# Altium schematic symbol library kmilo17pet-PIC32MX.SchLib: 556 symbols (part 13 of 38)
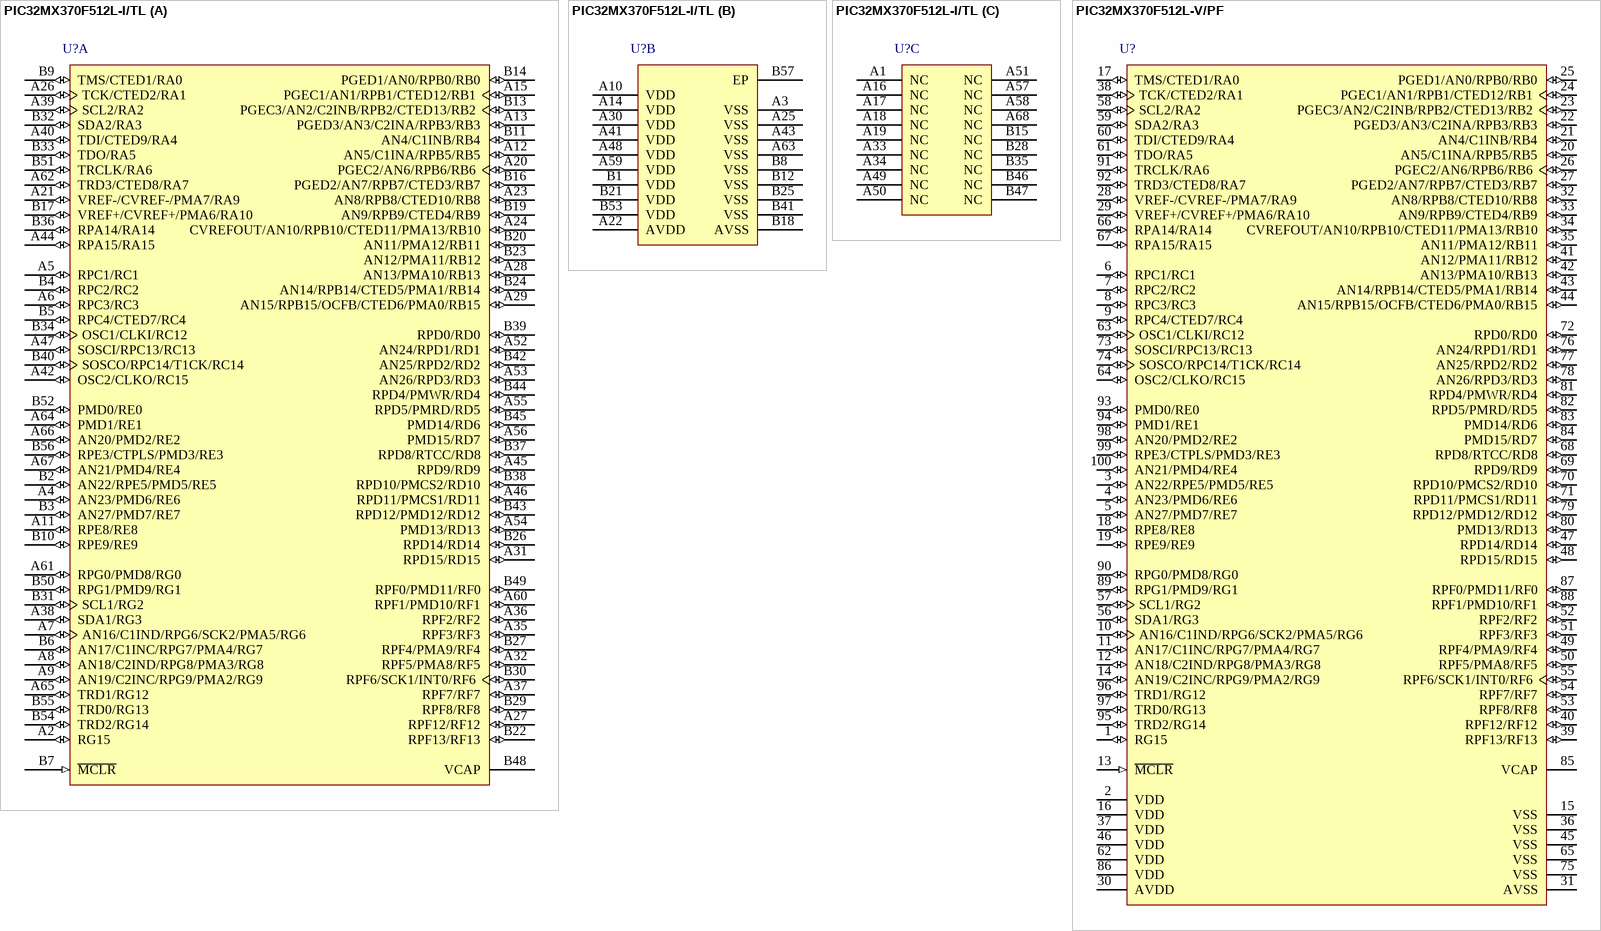
[diagram p204: symbols PIC32MX370F512L-I/TL to PIC32MX370F512L-V/PF]

## PIC32MX370F512L-I/TL
designator U?
32-Bit Microcontrollers with Audio/Graphics/Touch (HMI), USB, and Advanced Analog, 512 KB Program Memory, 128 KB Data Memory, 85 I/O, Industrial Temperature, 124-Pin VTAL (TL124), Tube; Manufacturer: Microchip; PartNumber: PIC32MX370F512L-I/TL; VCC Range: 2.3 to 3.6 V; DatasheetVersion: Rev. C; PackageVersion: C04-193A; PackageReference: VTLA-TL124; PackageDescription: 124-Lead Terminal Very Thin Leadless Array Package, 9 x 9 mm Body, 0.5 mm Pitch; Supplier 1: Digi-Key; Supplier Part Number 1: PIC32MX370F512L-I/TL-ND; Packing: Tube; Mounting Technology: Surface Mount; ComponentLink1Description: Manufacturer URL; ComponentLink1URL: http://www.microchip.com/; ComponentLink2Description: Datasheet; ComponentLink2URL: http://ww1.microchip.com/downloads/en/DeviceDoc/60001185C.pdf; ComponentLink3Description: Package Specification; ComponentLink3URL: http://ww1.microchip.com/downloads/en/DeviceDoc/60001185C.pdf
footprint MCHP-VTLA-TL124_V (VTLA, 124-Leads, Body 9x9mm, Pitch 0.5mm, Thermal Pad 6.7X6.7mm)
part A pins: A2 RG15 (io) "PORTG is a bidirectional I/O port", A4 AN23/PMD6/RE6 (io), A5 RPC1/RC1 (io), A6 RPC3/RC3 (io), A7 AN16/C1IND/RPG6/SCK2/PMA5/RG6 (io), A8 AN18/C2IND/RPG8/PMA3/RG8 (io), A9 AN19/C2INC/RPG9/PMA2/RG9 (io), A11 RPE8/RE8 (io), A12 AN5/C1INA/RPB5/RB5 (io), A13 PGED3/AN3/C2INA/RPB3/RB3 (io), A15 PGEC1/AN1/RPB1/CTED12/RB1 (io), A20 PGEC2/AN6/RPB6/RB6 (io), A21 VREF-/CVREF-/PMA7/RA9 (io), A23 AN8/RPB8/CTED10/RB8 (io), A24 CVREFOUT/AN10/RPB10/CTED11/PMA13/RB10 (io), A26 TCK/CTED2/RA1 (io), A27 RPF12/RF12 (io), A28 AN13/PMA10/RB13 (io), A29 AN15/RPB15/OCFB/CTED6/PMA0/RB15 (io), A31 RPD15/RD15 (io), A32 RPF5/PMA8/RF5 (io), A35 RPF3/RF3 (io), A36 RPF2/RF2 (io), A37 RPF7/RF7 (io), A38 SDA1/RG3 (io), A39 SCL2/RA2 (io), A40 TDI/CTED9/RA4 (io), A42 OSC2/CLKO/RC15 (io), A44 RPA15/RA15 (io), A45 RPD9/RD9 (io), A46 RPD11/PMCS1/RD11 (io), A47 SOSCI/RPC13/RC13 (io), A52 AN24/RPD1/RD1 (io), A53 AN26/RPD3/RD3 (io), A54 PMD13/RD13 (io), A55 RPD5/PMRD/RD5 (io), A56 PMD15/RD7 (io), A60 RPF1/PMD10/RF1 (io), A61 RPG0/PMD8/RG0 (io), A62 TRD3/CTED8/RA7 (io), A64 PMD1/RE1 (io), A65 TRD1/RG12 (io), A66 AN20/PMD2/RE2 (io), A67 AN21/PMD4/RE4 (io), B2 AN22/RPE5/PMD5/RE5 (io), B3 AN27/PMD7/RE7 (io), B4 RPC2/RC2 (io), B5 RPC4/CTED7/RC4 (io), B6 AN17/C1INC/RPG7/PMA4/RG7 (io), B7 ~{MCLR} (in) "Master Clear (Reset) input. This pin is an active-low Reset to the device.", B9 TMS/CTED1/RA0 (io), B10 RPE9/RE9 (io), B11 AN4/C1INB/RB4 (io), B13 PGEC3/AN2/C2INB/RPB2/CTED13/RB2 (io), B14 PGED1/AN0/RPB0/RB0 (io), B16 PGED2/AN7/RPB7/CTED3/RB7 (io), B17 VREF+/CVREF+/PMA6/RA10 (io), B19 AN9/RPB9/CTED4/RB9 (io), B20 AN11/PMA12/RB11 (io), B22 RPF13/RF13 (io), B23 AN12/PMA11/RB12 (io), B24 AN14/RPB14/CTED5/PMA1/RB14 (io), B26 RPD14/RD14 (io), B27 RPF4/PMA9/RF4 (io), B29 RPF8/RF8 (io), B30 RPF6/SCK1/INT0/RF6 (io), B31 SCL1/RG2 (io), B32 SDA2/RA3 (io), B33 TDO/RA5 (io), B34 OSC1/CLKI/RC12 (io), B36 RPA14/RA14 (io), B37 RPD8/RTCC/RD8 (io), B38 RPD10/PMCS2/RD10 (io), B39 RPD0/RD0 (io), B40 SOSCO/RPC14/T1CK/RC14 (io), B42 AN25/RPD2/RD2 (io), B43 RPD12/PMD12/RD12 (io), B44 RPD4/PMWR/RD4 (io), B45 PMD14/RD6 (io), B48 VCAP "Capacitor for Internal Voltage Regulator", B49 RPF0/PMD11/RF0 (io), B50 RPG1/PMD9/RG1 (io), B51 TRCLK/RA6 (io), B52 PMD0/RE0 (io), B54 TRD2/RG14 (io), B55 TRD0/RG13 (io), B56 RPE3/CTPLS/PMD3/RE3 (io)
part B pins: A3 VSS (power) "Ground reference for logic and I/O pins", A10 VDD (power) "Positive supply for peripheral logic and I/O pins", A14 VDD (power) "Positive supply for peripheral logic and I/O pins", A22 AVDD (power) "Positive supply for analog modules. This pin must be connected at all times.", A25 VSS (power) "Ground reference for logic and I/O pins", A30 VDD (power) "Positive supply for peripheral logic and I/O pins", A41 VDD (power) "Positive supply for peripheral logic and I/O pins", A43 VSS (power) "Ground reference for logic and I/O pins", A48 VDD (power) "Positive supply for peripheral logic and I/O pins", A59 VDD (power) "Positive supply for peripheral logic and I/O pins", A63 VSS (power) "Ground reference for logic and I/O pins", B1 VDD (power) "Positive supply for peripheral logic and I/O pins", B8 VSS (power) "Ground reference for logic and I/O pins", B12 VSS (power) "Ground reference for logic and I/O pins", B18 AVSS (power) "Ground reference for analog modules", B21 VDD (power) "Positive supply for peripheral logic and I/O pins", B25 VSS (power) "Ground reference for logic and I/O pins", B41 VSS (power) "Ground reference for logic and I/O pins", B53 VDD (power) "Positive supply for peripheral logic and I/O pins", B57 EP (power) "Conductive Thermal Pad"
part C pins: A1 NC, A16 NC, A17 NC, A18 NC, A19 NC, A33 NC, A34 NC, A49 NC, A50 NC, A51 NC, A57 NC, A58 NC, A68 NC, B15 NC, B28 NC, B35 NC, B46 NC, B47 NC

## PIC32MX370F512L-V/PF
designator U?
32-Bit Microcontrollers with Audio/Graphics/Touch (HMI), USB, and Advanced Analog, 512 KB Program Memory, 128 KB Data Memory, 85 I/O, V-Temp, 100-Pin TQFP (PF100), Tray; Manufacturer: Microchip; PartNumber: PIC32MX370F512L-V/PF; VCC Range: 2.3 to 3.6 V; DatasheetVersion: Rev. C; PackageVersion: C04-110B, 12/2012; PackageReference: TQFP-PF100; PackageDescription: 100-Lead Thin Plastic Quad Flat Pack, 14 x 14 mm Body, 0.5 mm Pitch; Supplier 1: Digi-Key; Supplier Part Number 1: PIC32MX370F512L-V/PF-ND; Packing: Tray; Mounting Technology: Surface Mount; ComponentLink1Description: Manufacturer URL; ComponentLink1URL: http://www.microchip.com/; ComponentLink2Description: Datasheet; ComponentLink2URL: http://ww1.microchip.com/downloads/en/DeviceDoc/60001185C.pdf; ComponentLink3Description: Package Specification; ComponentLink3URL: http://www.microchip.com/stellent/groups/techpub_sg/documents/packagingspec/en012702.pdf
footprint MCHP-TQFP-PF100_N (QFP, 100-Leads, Body 14x14mm, Pitch 0.5mm, IPC Medium Density)
footprint MCHP-TQFP-PF100_L (QFP, 100-Leads, Body 14x14mm, Pitch 0.5mm, IPC High Density)
footprint MCHP-TQFP-PF100_M (QFP, 100-Leads, Body 14x14mm, Pitch 0.5mm, IPC Low Density)
pins: 1 RG15 (io) "PORTG is a bidirectional I/O port", 2 VDD (power) "Positive supply for peripheral logic and I/O pins", 3 AN22/RPE5/PMD5/RE5 (io), 4 AN23/PMD6/RE6 (io), 5 AN27/PMD7/RE7 (io), 6 RPC1/RC1 (io), 7 RPC2/RC2 (io), 8 RPC3/RC3 (io), 9 RPC4/CTED7/RC4 (io), 10 AN16/C1IND/RPG6/SCK2/PMA5/RG6 (io), 11 AN17/C1INC/RPG7/PMA4/RG7 (io), 12 AN18/C2IND/RPG8/PMA3/RG8 (io), 13 ~{MCLR} (in) "Master Clear (Reset) input. This pin is an active-low  Reset to the device.", 14 AN19/C2INC/RPG9/PMA2/RG9 (io), 15 VSS (power) "Ground reference for logic and I/O pins", 16 VDD (power) "Positive supply for peripheral logic and I/O pins", 17 TMS/CTED1/RA0 (io), 18 RPE8/RE8 (io), 19 RPE9/RE9 (io), 20 AN5/C1INA/RPB5/RB5 (io), 21 AN4/C1INB/RB4 (io), 22 PGED3/AN3/C2INA/RPB3/RB3 (io), 23 PGEC3/AN2/C2INB/RPB2/CTED13/RB2 (io), 24 PGEC1/AN1/RPB1/CTED12/RB1 (io), 25 PGED1/AN0/RPB0/RB0 (io), 26 PGEC2/AN6/RPB6/RB6 (io), 27 PGED2/AN7/RPB7/CTED3/RB7 (io), 28 VREF-/CVREF-/PMA7/RA9 (io), 29 VREF+/CVREF+/PMA6/RA10 (io), 30 AVDD (power) "Positive supply for analog modules. This pin must be  connected at all times.", 31 AVSS (power) "Ground reference for analog modules", 32 AN8/RPB8/CTED10/RB8 (io), 33 AN9/RPB9/CTED4/RB9 (io), 34 CVREFOUT/AN10/RPB10/CTED11/PMA13/RB10 (io), 35 AN11/PMA12/RB11 (io), 36 VSS (power) "Ground reference for logic and I/O pins", 37 VDD (power) "Positive supply for peripheral logic and I/O pins", 38 TCK/CTED2/RA1 (io), 39 RPF13/RF13 (io), 40 RPF12/RF12 (io), 41 AN12/PMA11/RB12 (io), 42 AN13/PMA10/RB13 (io), 43 AN14/RPB14/CTED5/PMA1/RB14 (io), 44 AN15/RPB15/OCFB/CTED6/PMA0/RB15 (io), 45 VSS (power) "Ground reference for logic and I/O pins", 46 VDD (power) "Positive supply for peripheral logic and I/O pins", 47 RPD14/RD14 (io), 48 RPD15/RD15 (io), 49 RPF4/PMA9/RF4 (io), 50 RPF5/PMA8/RF5 (io), 51 RPF3/RF3 (io), 52 RPF2/RF2 (io), 53 RPF8/RF8 (io), 54 RPF7/RF7 (io), 55 RPF6/SCK1/INT0/RF6 (io), 56 SDA1/RG3 (io), 57 SCL1/RG2 (io), 58 SCL2/RA2 (io), 59 SDA2/RA3 (io), 60 TDI/CTED9/RA4 (io), 61 TDO/RA5 (io), 62 VDD (power) "Positive supply for peripheral logic and I/O pins", 63 OSC1/CLKI/RC12 (io), 64 OSC2/CLKO/RC15 (io), 65 VSS (power) "Ground reference for logic and I/O pins", 66 RPA14/RA14 (io), 67 RPA15/RA15 (io), 68 RPD8/RTCC/RD8 (io), 69 RPD9/RD9 (io), 70 RPD10/PMCS2/RD10 (io), 71 RPD11/PMCS1/RD11 (io), 72 RPD0/RD0 (io), 73 SOSCI/RPC13/RC13 (io), 74 SOSCO/RPC14/T1CK/RC14 (io), 75 VSS (power) "Ground reference for logic and I/O pins", 76 AN24/RPD1/RD1 (io), 77 AN25/RPD2/RD2 (io), 78 AN26/RPD3/RD3 (io), 79 RPD12/PMD12/RD12 (io), 80 PMD13/RD13 (io), 81 RPD4/PMWR/RD4 (io), 82 RPD5/PMRD/RD5 (io), 83 PMD14/RD6 (io), 84 PMD15/RD7 (io), 85 VCAP "Capacitor for Internal Voltage Regulator", 86 VDD (power) "Positive supply for peripheral logic and I/O pins", 87 RPF0/PMD11/RF0 (io), 88 RPF1/PMD10/RF1 (io), 89 RPG1/PMD9/RG1 (io), 90 RPG0/PMD8/RG0 (io), 91 TRCLK/RA6 (io), 92 TRD3/CTED8/RA7 (io), 93 PMD0/RE0 (io), 94 PMD1/RE1 (io), 95 TRD2/RG14 (io), 96 TRD1/RG12 (io), 97 TRD0/RG13 (io), 98 AN20/PMD2/RE2 (io), 99 RPE3/CTPLS/PMD3/RE3 (io), 100 AN21/PMD4/RE4 (io)

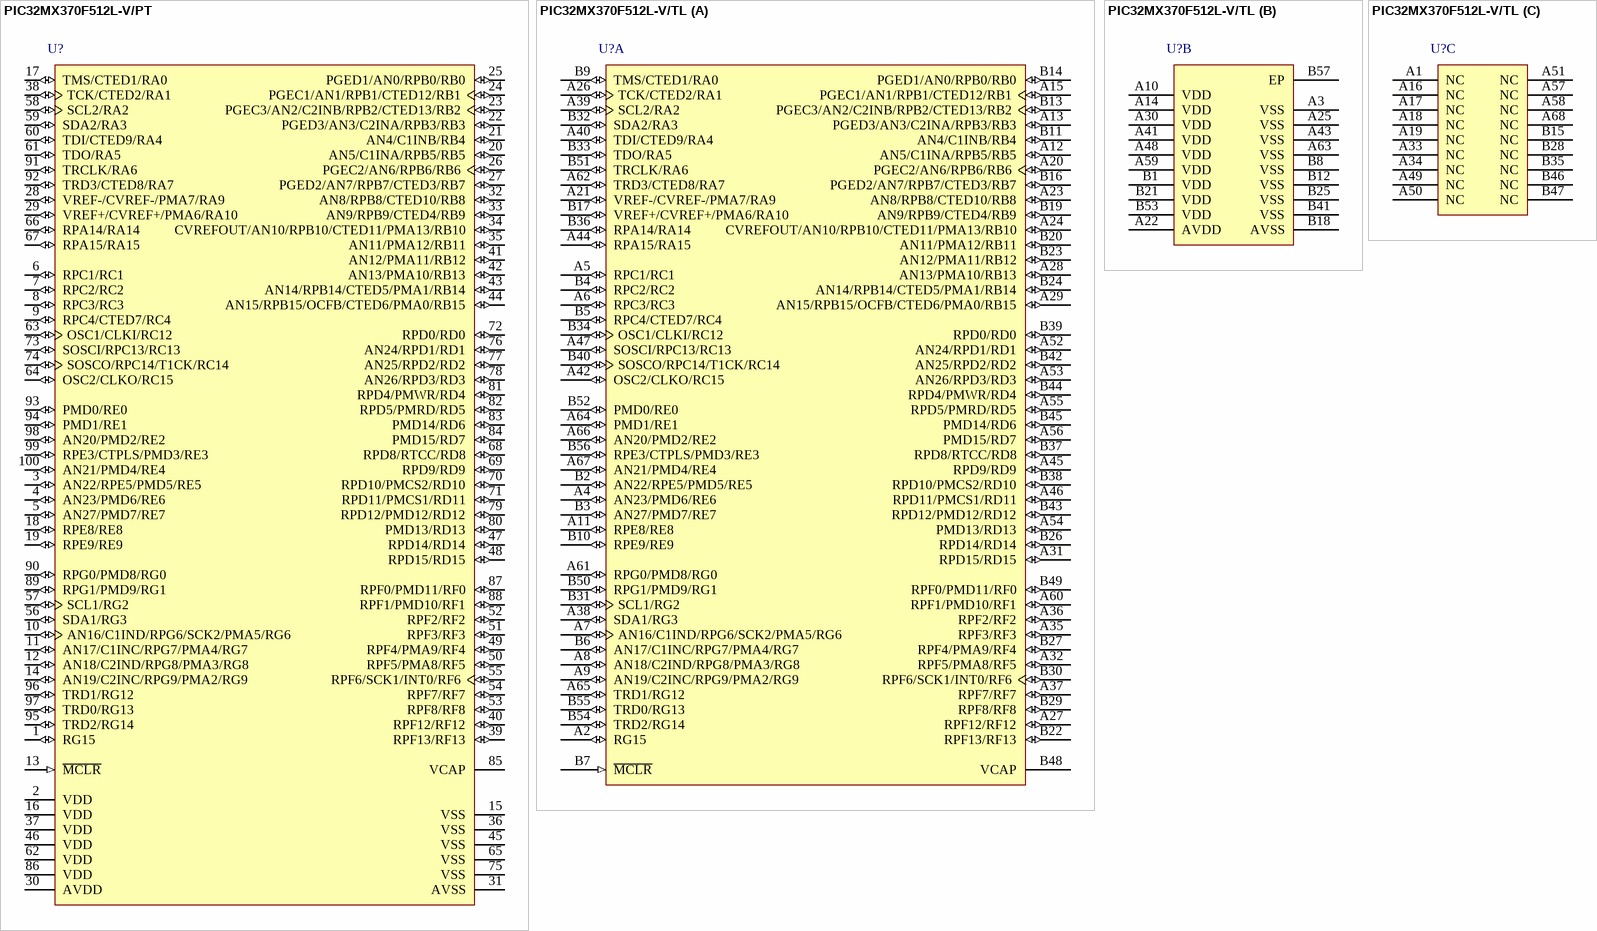
[diagram p54: symbols PIC32MX370F512L-V/PT to PIC32MX370F512L-V/TL]

## PIC32MX370F512L-V/PT
designator U?
32-Bit Microcontrollers with Audio/Graphics/Touch (HMI), USB, and Advanced Analog, 512 KB Program Memory, 128 KB Data Memory, 85 I/O, V-Temp, 100-Pin TQFP (PT100), Tray; Manufacturer: Microchip; PartNumber: PIC32MX370F512L-V/PT; VCC Range: 2.3 to 3.6 V; DatasheetVersion: Rev. C; PackageVersion: C04-100B, 12/2012; PackageReference: TQFP-PT100; PackageDescription: 100-Lead Plastic Thin Quad Flatpack, 12 x 12 mm Body, 0.4 mm Pitch; Supplier 1: Digi-Key; Supplier Part Number 1: PIC32MX370F512L-V/PT-ND; Packing: Tray; Mounting Technology: Surface Mount; ComponentLink1Description: Manufacturer URL; ComponentLink1URL: http://www.microchip.com/; ComponentLink2Description: Datasheet; ComponentLink2URL: http://ww1.microchip.com/downloads/en/DeviceDoc/60001185C.pdf; ComponentLink3Description: Package Specification; ComponentLink3URL: http://www.microchip.com/stellent/groups/techpub_sg/documents/packagingspec/en012702.pdf
footprint MCHP-TQFP-PT100_N (QFP, 100-Leads, Body 12x12mm, Pitch 0.4mm, IPC Medium Density)
footprint MCHP-TQFP-PT100_L (QFP, 100-Leads, Body 12x12mm, Pitch 0.4mm, IPC High Density)
footprint MCHP-TQFP-PT100_M (TQFP, 100-Leads, Body 12x12mm, Pitch 0.4mm, IPC Low Density)
pins: 1 RG15 (io) "PORTG is a bidirectional I/O port", 2 VDD (power) "Positive supply for peripheral logic and I/O pins", 3 AN22/RPE5/PMD5/RE5 (io), 4 AN23/PMD6/RE6 (io), 5 AN27/PMD7/RE7 (io), 6 RPC1/RC1 (io), 7 RPC2/RC2 (io), 8 RPC3/RC3 (io), 9 RPC4/CTED7/RC4 (io), 10 AN16/C1IND/RPG6/SCK2/PMA5/RG6 (io), 11 AN17/C1INC/RPG7/PMA4/RG7 (io), 12 AN18/C2IND/RPG8/PMA3/RG8 (io), 13 ~{MCLR} (in) "Master Clear (Reset) input. This pin is an active-low  Reset to the device.", 14 AN19/C2INC/RPG9/PMA2/RG9 (io), 15 VSS (power) "Ground reference for logic and I/O pins", 16 VDD (power) "Positive supply for peripheral logic and I/O pins", 17 TMS/CTED1/RA0 (io), 18 RPE8/RE8 (io), 19 RPE9/RE9 (io), 20 AN5/C1INA/RPB5/RB5 (io), 21 AN4/C1INB/RB4 (io), 22 PGED3/AN3/C2INA/RPB3/RB3 (io), 23 PGEC3/AN2/C2INB/RPB2/CTED13/RB2 (io), 24 PGEC1/AN1/RPB1/CTED12/RB1 (io), 25 PGED1/AN0/RPB0/RB0 (io), 26 PGEC2/AN6/RPB6/RB6 (io), 27 PGED2/AN7/RPB7/CTED3/RB7 (io), 28 VREF-/CVREF-/PMA7/RA9 (io), 29 VREF+/CVREF+/PMA6/RA10 (io), 30 AVDD (power) "Positive supply for analog modules. This pin must be  connected at all times.", 31 AVSS (power) "Ground reference for analog modules", 32 AN8/RPB8/CTED10/RB8 (io), 33 AN9/RPB9/CTED4/RB9 (io), 34 CVREFOUT/AN10/RPB10/CTED11/PMA13/RB10 (io), 35 AN11/PMA12/RB11 (io), 36 VSS (power) "Ground reference for logic and I/O pins", 37 VDD (power) "Positive supply for peripheral logic and I/O pins", 38 TCK/CTED2/RA1 (io), 39 RPF13/RF13 (io), 40 RPF12/RF12 (io), 41 AN12/PMA11/RB12 (io), 42 AN13/PMA10/RB13 (io), 43 AN14/RPB14/CTED5/PMA1/RB14 (io), 44 AN15/RPB15/OCFB/CTED6/PMA0/RB15 (io), 45 VSS (power) "Ground reference for logic and I/O pins", 46 VDD (power) "Positive supply for peripheral logic and I/O pins", 47 RPD14/RD14 (io), 48 RPD15/RD15 (io), 49 RPF4/PMA9/RF4 (io), 50 RPF5/PMA8/RF5 (io), 51 RPF3/RF3 (io), 52 RPF2/RF2 (io), 53 RPF8/RF8 (io), 54 RPF7/RF7 (io), 55 RPF6/SCK1/INT0/RF6 (io), 56 SDA1/RG3 (io), 57 SCL1/RG2 (io), 58 SCL2/RA2 (io), 59 SDA2/RA3 (io), 60 TDI/CTED9/RA4 (io), 61 TDO/RA5 (io), 62 VDD (power) "Positive supply for peripheral logic and I/O pins", 63 OSC1/CLKI/RC12 (io), 64 OSC2/CLKO/RC15 (io), 65 VSS (power) "Ground reference for logic and I/O pins", 66 RPA14/RA14 (io), 67 RPA15/RA15 (io), 68 RPD8/RTCC/RD8 (io), 69 RPD9/RD9 (io), 70 RPD10/PMCS2/RD10 (io), 71 RPD11/PMCS1/RD11 (io), 72 RPD0/RD0 (io), 73 SOSCI/RPC13/RC13 (io), 74 SOSCO/RPC14/T1CK/RC14 (io), 75 VSS (power) "Ground reference for logic and I/O pins", 76 AN24/RPD1/RD1 (io), 77 AN25/RPD2/RD2 (io), 78 AN26/RPD3/RD3 (io), 79 RPD12/PMD12/RD12 (io), 80 PMD13/RD13 (io), 81 RPD4/PMWR/RD4 (io), 82 RPD5/PMRD/RD5 (io), 83 PMD14/RD6 (io), 84 PMD15/RD7 (io), 85 VCAP "Capacitor for Internal Voltage Regulator", 86 VDD (power) "Positive supply for peripheral logic and I/O pins", 87 RPF0/PMD11/RF0 (io), 88 RPF1/PMD10/RF1 (io), 89 RPG1/PMD9/RG1 (io), 90 RPG0/PMD8/RG0 (io), 91 TRCLK/RA6 (io), 92 TRD3/CTED8/RA7 (io), 93 PMD0/RE0 (io), 94 PMD1/RE1 (io), 95 TRD2/RG14 (io), 96 TRD1/RG12 (io), 97 TRD0/RG13 (io), 98 AN20/PMD2/RE2 (io), 99 RPE3/CTPLS/PMD3/RE3 (io), 100 AN21/PMD4/RE4 (io)

## PIC32MX370F512L-V/TL
designator U?
32-Bit Microcontrollers with Audio/Graphics/Touch (HMI), USB, and Advanced Analog, 512 KB Program Memory, 128 KB Data Memory, 85 I/O, V-Temp, 124-Pin VTAL (TL124), Tube; Manufacturer: Microchip; PartNumber: PIC32MX370F512L-V/TL; VCC Range: 2.3 to 3.6 V; DatasheetVersion: Rev. C; PackageVersion: C04-193A; PackageReference: VTLA-TL124; PackageDescription: 124-Lead Terminal Very Thin Leadless Array Package, 9 x 9 mm Body, 0.5 mm Pitch; Supplier 1: Digi-Key; Supplier Part Number 1: PIC32MX370F512L-V/TL-ND; Packing: Tube; Mounting Technology: Surface Mount; ComponentLink1Description: Manufacturer URL; ComponentLink1URL: http://www.microchip.com/; ComponentLink2Description: Datasheet; ComponentLink2URL: http://ww1.microchip.com/downloads/en/DeviceDoc/60001185C.pdf; ComponentLink3Description: Package Specification; ComponentLink3URL: http://ww1.microchip.com/downloads/en/DeviceDoc/60001185C.pdf
footprint MCHP-VTLA-TL124_V (VTLA, 124-Leads, Body 9x9mm, Pitch 0.5mm, Thermal Pad 6.7X6.7mm)
part A pins: A2 RG15 (io) "PORTG is a bidirectional I/O port", A4 AN23/PMD6/RE6 (io), A5 RPC1/RC1 (io), A6 RPC3/RC3 (io), A7 AN16/C1IND/RPG6/SCK2/PMA5/RG6 (io), A8 AN18/C2IND/RPG8/PMA3/RG8 (io), A9 AN19/C2INC/RPG9/PMA2/RG9 (io), A11 RPE8/RE8 (io), A12 AN5/C1INA/RPB5/RB5 (io), A13 PGED3/AN3/C2INA/RPB3/RB3 (io), A15 PGEC1/AN1/RPB1/CTED12/RB1 (io), A20 PGEC2/AN6/RPB6/RB6 (io), A21 VREF-/CVREF-/PMA7/RA9 (io), A23 AN8/RPB8/CTED10/RB8 (io), A24 CVREFOUT/AN10/RPB10/CTED11/PMA13/RB10 (io), A26 TCK/CTED2/RA1 (io), A27 RPF12/RF12 (io), A28 AN13/PMA10/RB13 (io), A29 AN15/RPB15/OCFB/CTED6/PMA0/RB15 (io), A31 RPD15/RD15 (io), A32 RPF5/PMA8/RF5 (io), A35 RPF3/RF3 (io), A36 RPF2/RF2 (io), A37 RPF7/RF7 (io), A38 SDA1/RG3 (io), A39 SCL2/RA2 (io), A40 TDI/CTED9/RA4 (io), A42 OSC2/CLKO/RC15 (io), A44 RPA15/RA15 (io), A45 RPD9/RD9 (io), A46 RPD11/PMCS1/RD11 (io), A47 SOSCI/RPC13/RC13 (io), A52 AN24/RPD1/RD1 (io), A53 AN26/RPD3/RD3 (io), A54 PMD13/RD13 (io), A55 RPD5/PMRD/RD5 (io), A56 PMD15/RD7 (io), A60 RPF1/PMD10/RF1 (io), A61 RPG0/PMD8/RG0 (io), A62 TRD3/CTED8/RA7 (io), A64 PMD1/RE1 (io), A65 TRD1/RG12 (io), A66 AN20/PMD2/RE2 (io), A67 AN21/PMD4/RE4 (io), B2 AN22/RPE5/PMD5/RE5 (io), B3 AN27/PMD7/RE7 (io), B4 RPC2/RC2 (io), B5 RPC4/CTED7/RC4 (io), B6 AN17/C1INC/RPG7/PMA4/RG7 (io), B7 ~{MCLR} (in) "Master Clear (Reset) input. This pin is an active-low Reset to the device.", B9 TMS/CTED1/RA0 (io), B10 RPE9/RE9 (io), B11 AN4/C1INB/RB4 (io), B13 PGEC3/AN2/C2INB/RPB2/CTED13/RB2 (io), B14 PGED1/AN0/RPB0/RB0 (io), B16 PGED2/AN7/RPB7/CTED3/RB7 (io), B17 VREF+/CVREF+/PMA6/RA10 (io), B19 AN9/RPB9/CTED4/RB9 (io), B20 AN11/PMA12/RB11 (io), B22 RPF13/RF13 (io), B23 AN12/PMA11/RB12 (io), B24 AN14/RPB14/CTED5/PMA1/RB14 (io), B26 RPD14/RD14 (io), B27 RPF4/PMA9/RF4 (io), B29 RPF8/RF8 (io), B30 RPF6/SCK1/INT0/RF6 (io), B31 SCL1/RG2 (io), B32 SDA2/RA3 (io), B33 TDO/RA5 (io), B34 OSC1/CLKI/RC12 (io), B36 RPA14/RA14 (io), B37 RPD8/RTCC/RD8 (io), B38 RPD10/PMCS2/RD10 (io), B39 RPD0/RD0 (io), B40 SOSCO/RPC14/T1CK/RC14 (io), B42 AN25/RPD2/RD2 (io), B43 RPD12/PMD12/RD12 (io), B44 RPD4/PMWR/RD4 (io), B45 PMD14/RD6 (io), B48 VCAP "Capacitor for Internal Voltage Regulator", B49 RPF0/PMD11/RF0 (io), B50 RPG1/PMD9/RG1 (io), B51 TRCLK/RA6 (io), B52 PMD0/RE0 (io), B54 TRD2/RG14 (io), B55 TRD0/RG13 (io), B56 RPE3/CTPLS/PMD3/RE3 (io)
part B pins: A3 VSS (power) "Ground reference for logic and I/O pins", A10 VDD (power) "Positive supply for peripheral logic and I/O pins", A14 VDD (power) "Positive supply for peripheral logic and I/O pins", A22 AVDD (power) "Positive supply for analog modules. This pin must be connected at all times.", A25 VSS (power) "Ground reference for logic and I/O pins", A30 VDD (power) "Positive supply for peripheral logic and I/O pins", A41 VDD (power) "Positive supply for peripheral logic and I/O pins", A43 VSS (power) "Ground reference for logic and I/O pins", A48 VDD (power) "Positive supply for peripheral logic and I/O pins", A59 VDD (power) "Positive supply for peripheral logic and I/O pins", A63 VSS (power) "Ground reference for logic and I/O pins", B1 VDD (power) "Positive supply for peripheral logic and I/O pins", B8 VSS (power) "Ground reference for logic and I/O pins", B12 VSS (power) "Ground reference for logic and I/O pins", B18 AVSS (power) "Ground reference for analog modules", B21 VDD (power) "Positive supply for peripheral logic and I/O pins", B25 VSS (power) "Ground reference for logic and I/O pins", B41 VSS (power) "Ground reference for logic and I/O pins", B53 VDD (power) "Positive supply for peripheral logic and I/O pins", B57 EP (power) "Conductive Thermal Pad"
part C pins: A1 NC, A16 NC, A17 NC, A18 NC, A19 NC, A33 NC, A34 NC, A49 NC, A50 NC, A51 NC, A57 NC, A58 NC, A68 NC, B15 NC, B28 NC, B35 NC, B46 NC, B47 NC

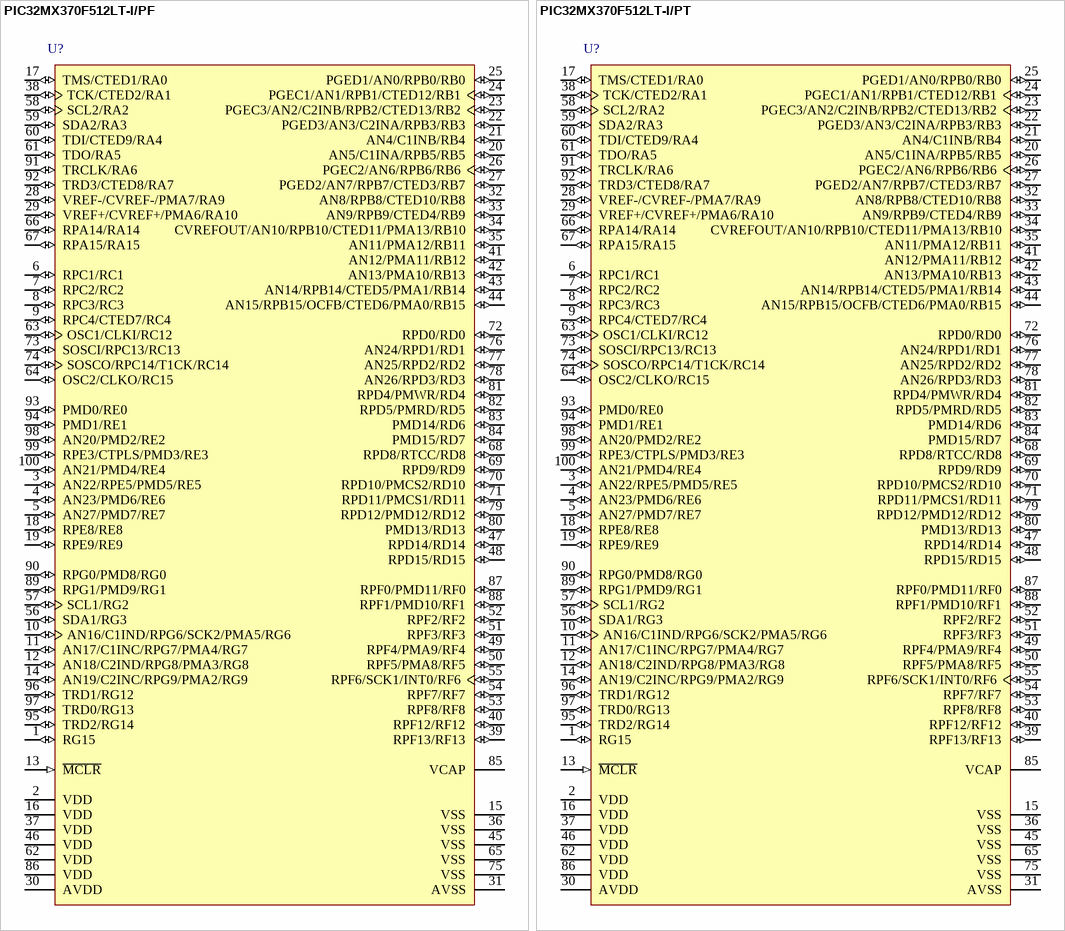
[diagram p55: symbols PIC32MX370F512LT-I/PF to PIC32MX370F512LT-I/PT]

## PIC32MX370F512LT-I/PF
designator U?
32-Bit Microcontrollers with Audio/Graphics/Touch (HMI), USB, and Advanced Analog, 512 KB Program Memory, 128 KB Data Memory, 85 I/O, Industrial Temperature, 100-Pin TQFP (PF100), Tape and Reel; Manufacturer: Microchip; PartNumber: PIC32MX370F512LT-I/PF; VCC Range: 2.3 to 3.6 V; DatasheetVersion: Rev. C; PackageVersion: C04-110B, 12/2012; PackageReference: TQFP-PF100; PackageDescription: 100-Lead Thin Plastic Quad Flat Pack, 14 x 14 mm Body, 0.5 mm Pitch; Supplier 1: Digi-Key; Supplier Part Number 1: PIC32MX370F512LT-I/PF-ND; Packing: Tape and Reel; Mounting Technology: Surface Mount; ComponentLink1Description: Manufacturer URL; ComponentLink1URL: http://www.microchip.com/; ComponentLink2Description: Datasheet; ComponentLink2URL: http://ww1.microchip.com/downloads/en/DeviceDoc/60001185C.pdf; ComponentLink3Description: Package Specification; ComponentLink3URL: http://www.microchip.com/stellent/groups/techpub_sg/documents/packagingspec/en012702.pdf
footprint MCHP-TQFP-PF100_N (QFP, 100-Leads, Body 14x14mm, Pitch 0.5mm, IPC Medium Density)
footprint MCHP-TQFP-PF100_L (QFP, 100-Leads, Body 14x14mm, Pitch 0.5mm, IPC High Density)
footprint MCHP-TQFP-PF100_M (QFP, 100-Leads, Body 14x14mm, Pitch 0.5mm, IPC Low Density)
pins: 1 RG15 (io) "PORTG is a bidirectional I/O port", 2 VDD (power) "Positive supply for peripheral logic and I/O pins", 3 AN22/RPE5/PMD5/RE5 (io), 4 AN23/PMD6/RE6 (io), 5 AN27/PMD7/RE7 (io), 6 RPC1/RC1 (io), 7 RPC2/RC2 (io), 8 RPC3/RC3 (io), 9 RPC4/CTED7/RC4 (io), 10 AN16/C1IND/RPG6/SCK2/PMA5/RG6 (io), 11 AN17/C1INC/RPG7/PMA4/RG7 (io), 12 AN18/C2IND/RPG8/PMA3/RG8 (io), 13 ~{MCLR} (in) "Master Clear (Reset) input. This pin is an active-low  Reset to the device.", 14 AN19/C2INC/RPG9/PMA2/RG9 (io), 15 VSS (power) "Ground reference for logic and I/O pins", 16 VDD (power) "Positive supply for peripheral logic and I/O pins", 17 TMS/CTED1/RA0 (io), 18 RPE8/RE8 (io), 19 RPE9/RE9 (io), 20 AN5/C1INA/RPB5/RB5 (io), 21 AN4/C1INB/RB4 (io), 22 PGED3/AN3/C2INA/RPB3/RB3 (io), 23 PGEC3/AN2/C2INB/RPB2/CTED13/RB2 (io), 24 PGEC1/AN1/RPB1/CTED12/RB1 (io), 25 PGED1/AN0/RPB0/RB0 (io), 26 PGEC2/AN6/RPB6/RB6 (io), 27 PGED2/AN7/RPB7/CTED3/RB7 (io), 28 VREF-/CVREF-/PMA7/RA9 (io), 29 VREF+/CVREF+/PMA6/RA10 (io), 30 AVDD (power) "Positive supply for analog modules. This pin must be  connected at all times.", 31 AVSS (power) "Ground reference for analog modules", 32 AN8/RPB8/CTED10/RB8 (io), 33 AN9/RPB9/CTED4/RB9 (io), 34 CVREFOUT/AN10/RPB10/CTED11/PMA13/RB10 (io), 35 AN11/PMA12/RB11 (io), 36 VSS (power) "Ground reference for logic and I/O pins", 37 VDD (power) "Positive supply for peripheral logic and I/O pins", 38 TCK/CTED2/RA1 (io), 39 RPF13/RF13 (io), 40 RPF12/RF12 (io), 41 AN12/PMA11/RB12 (io), 42 AN13/PMA10/RB13 (io), 43 AN14/RPB14/CTED5/PMA1/RB14 (io), 44 AN15/RPB15/OCFB/CTED6/PMA0/RB15 (io), 45 VSS (power) "Ground reference for logic and I/O pins", 46 VDD (power) "Positive supply for peripheral logic and I/O pins", 47 RPD14/RD14 (io), 48 RPD15/RD15 (io), 49 RPF4/PMA9/RF4 (io), 50 RPF5/PMA8/RF5 (io), 51 RPF3/RF3 (io), 52 RPF2/RF2 (io), 53 RPF8/RF8 (io), 54 RPF7/RF7 (io), 55 RPF6/SCK1/INT0/RF6 (io), 56 SDA1/RG3 (io), 57 SCL1/RG2 (io), 58 SCL2/RA2 (io), 59 SDA2/RA3 (io), 60 TDI/CTED9/RA4 (io), 61 TDO/RA5 (io), 62 VDD (power) "Positive supply for peripheral logic and I/O pins", 63 OSC1/CLKI/RC12 (io), 64 OSC2/CLKO/RC15 (io), 65 VSS (power) "Ground reference for logic and I/O pins", 66 RPA14/RA14 (io), 67 RPA15/RA15 (io), 68 RPD8/RTCC/RD8 (io), 69 RPD9/RD9 (io), 70 RPD10/PMCS2/RD10 (io), 71 RPD11/PMCS1/RD11 (io), 72 RPD0/RD0 (io), 73 SOSCI/RPC13/RC13 (io), 74 SOSCO/RPC14/T1CK/RC14 (io), 75 VSS (power) "Ground reference for logic and I/O pins", 76 AN24/RPD1/RD1 (io), 77 AN25/RPD2/RD2 (io), 78 AN26/RPD3/RD3 (io), 79 RPD12/PMD12/RD12 (io), 80 PMD13/RD13 (io), 81 RPD4/PMWR/RD4 (io), 82 RPD5/PMRD/RD5 (io), 83 PMD14/RD6 (io), 84 PMD15/RD7 (io), 85 VCAP "Capacitor for Internal Voltage Regulator", 86 VDD (power) "Positive supply for peripheral logic and I/O pins", 87 RPF0/PMD11/RF0 (io), 88 RPF1/PMD10/RF1 (io), 89 RPG1/PMD9/RG1 (io), 90 RPG0/PMD8/RG0 (io), 91 TRCLK/RA6 (io), 92 TRD3/CTED8/RA7 (io), 93 PMD0/RE0 (io), 94 PMD1/RE1 (io), 95 TRD2/RG14 (io), 96 TRD1/RG12 (io), 97 TRD0/RG13 (io), 98 AN20/PMD2/RE2 (io), 99 RPE3/CTPLS/PMD3/RE3 (io), 100 AN21/PMD4/RE4 (io)

## PIC32MX370F512LT-I/PT
designator U?
32-Bit Microcontrollers with Audio/Graphics/Touch (HMI), USB, and Advanced Analog, 512 KB Program Memory, 128 KB Data Memory, 85 I/O, Industrial Temperature, 100-Pin TQFP (PT100), Tape and Reel; Manufacturer: Microchip; PartNumber: PIC32MX370F512LT-I/PT; VCC Range: 2.3 to 3.6 V; DatasheetVersion: Rev. C; PackageVersion: C04-100B, 12/2012; PackageReference: TQFP-PT100; PackageDescription: 100-Lead Plastic Thin Quad Flatpack, 12 x 12 mm Body, 0.4 mm Pitch; Supplier 1: Digi-Key; Supplier Part Number 1: PIC32MX370F512LT-I/PT-ND; Packing: Tape and Reel; Mounting Technology: Surface Mount; ComponentLink1Description: Manufacturer URL; ComponentLink1URL: http://www.microchip.com/; ComponentLink2Description: Datasheet; ComponentLink2URL: http://ww1.microchip.com/downloads/en/DeviceDoc/60001185C.pdf; ComponentLink3Description: Package Specification; ComponentLink3URL: http://www.microchip.com/stellent/groups/techpub_sg/documents/packagingspec/en012702.pdf
footprint MCHP-TQFP-PT100_N (QFP, 100-Leads, Body 12x12mm, Pitch 0.4mm, IPC Medium Density)
footprint MCHP-TQFP-PT100_L (QFP, 100-Leads, Body 12x12mm, Pitch 0.4mm, IPC High Density)
footprint MCHP-TQFP-PT100_M (TQFP, 100-Leads, Body 12x12mm, Pitch 0.4mm, IPC Low Density)
pins: 1 RG15 (io) "PORTG is a bidirectional I/O port", 2 VDD (power) "Positive supply for peripheral logic and I/O pins", 3 AN22/RPE5/PMD5/RE5 (io), 4 AN23/PMD6/RE6 (io), 5 AN27/PMD7/RE7 (io), 6 RPC1/RC1 (io), 7 RPC2/RC2 (io), 8 RPC3/RC3 (io), 9 RPC4/CTED7/RC4 (io), 10 AN16/C1IND/RPG6/SCK2/PMA5/RG6 (io), 11 AN17/C1INC/RPG7/PMA4/RG7 (io), 12 AN18/C2IND/RPG8/PMA3/RG8 (io), 13 ~{MCLR} (in) "Master Clear (Reset) input. This pin is an active-low  Reset to the device.", 14 AN19/C2INC/RPG9/PMA2/RG9 (io), 15 VSS (power) "Ground reference for logic and I/O pins", 16 VDD (power) "Positive supply for peripheral logic and I/O pins", 17 TMS/CTED1/RA0 (io), 18 RPE8/RE8 (io), 19 RPE9/RE9 (io), 20 AN5/C1INA/RPB5/RB5 (io), 21 AN4/C1INB/RB4 (io), 22 PGED3/AN3/C2INA/RPB3/RB3 (io), 23 PGEC3/AN2/C2INB/RPB2/CTED13/RB2 (io), 24 PGEC1/AN1/RPB1/CTED12/RB1 (io), 25 PGED1/AN0/RPB0/RB0 (io), 26 PGEC2/AN6/RPB6/RB6 (io), 27 PGED2/AN7/RPB7/CTED3/RB7 (io), 28 VREF-/CVREF-/PMA7/RA9 (io), 29 VREF+/CVREF+/PMA6/RA10 (io), 30 AVDD (power) "Positive supply for analog modules. This pin must be  connected at all times.", 31 AVSS (power) "Ground reference for analog modules", 32 AN8/RPB8/CTED10/RB8 (io), 33 AN9/RPB9/CTED4/RB9 (io), 34 CVREFOUT/AN10/RPB10/CTED11/PMA13/RB10 (io), 35 AN11/PMA12/RB11 (io), 36 VSS (power) "Ground reference for logic and I/O pins", 37 VDD (power) "Positive supply for peripheral logic and I/O pins", 38 TCK/CTED2/RA1 (io), 39 RPF13/RF13 (io), 40 RPF12/RF12 (io), 41 AN12/PMA11/RB12 (io), 42 AN13/PMA10/RB13 (io), 43 AN14/RPB14/CTED5/PMA1/RB14 (io), 44 AN15/RPB15/OCFB/CTED6/PMA0/RB15 (io), 45 VSS (power) "Ground reference for logic and I/O pins", 46 VDD (power) "Positive supply for peripheral logic and I/O pins", 47 RPD14/RD14 (io), 48 RPD15/RD15 (io), 49 RPF4/PMA9/RF4 (io), 50 RPF5/PMA8/RF5 (io), 51 RPF3/RF3 (io), 52 RPF2/RF2 (io), 53 RPF8/RF8 (io), 54 RPF7/RF7 (io), 55 RPF6/SCK1/INT0/RF6 (io), 56 SDA1/RG3 (io), 57 SCL1/RG2 (io), 58 SCL2/RA2 (io), 59 SDA2/RA3 (io), 60 TDI/CTED9/RA4 (io), 61 TDO/RA5 (io), 62 VDD (power) "Positive supply for peripheral logic and I/O pins", 63 OSC1/CLKI/RC12 (io), 64 OSC2/CLKO/RC15 (io), 65 VSS (power) "Ground reference for logic and I/O pins", 66 RPA14/RA14 (io), 67 RPA15/RA15 (io), 68 RPD8/RTCC/RD8 (io), 69 RPD9/RD9 (io), 70 RPD10/PMCS2/RD10 (io), 71 RPD11/PMCS1/RD11 (io), 72 RPD0/RD0 (io), 73 SOSCI/RPC13/RC13 (io), 74 SOSCO/RPC14/T1CK/RC14 (io), 75 VSS (power) "Ground reference for logic and I/O pins", 76 AN24/RPD1/RD1 (io), 77 AN25/RPD2/RD2 (io), 78 AN26/RPD3/RD3 (io), 79 RPD12/PMD12/RD12 (io), 80 PMD13/RD13 (io), 81 RPD4/PMWR/RD4 (io), 82 RPD5/PMRD/RD5 (io), 83 PMD14/RD6 (io), 84 PMD15/RD7 (io), 85 VCAP "Capacitor for Internal Voltage Regulator", 86 VDD (power) "Positive supply for peripheral logic and I/O pins", 87 RPF0/PMD11/RF0 (io), 88 RPF1/PMD10/RF1 (io), 89 RPG1/PMD9/RG1 (io), 90 RPG0/PMD8/RG0 (io), 91 TRCLK/RA6 (io), 92 TRD3/CTED8/RA7 (io), 93 PMD0/RE0 (io), 94 PMD1/RE1 (io), 95 TRD2/RG14 (io), 96 TRD1/RG12 (io), 97 TRD0/RG13 (io), 98 AN20/PMD2/RE2 (io), 99 RPE3/CTPLS/PMD3/RE3 (io), 100 AN21/PMD4/RE4 (io)

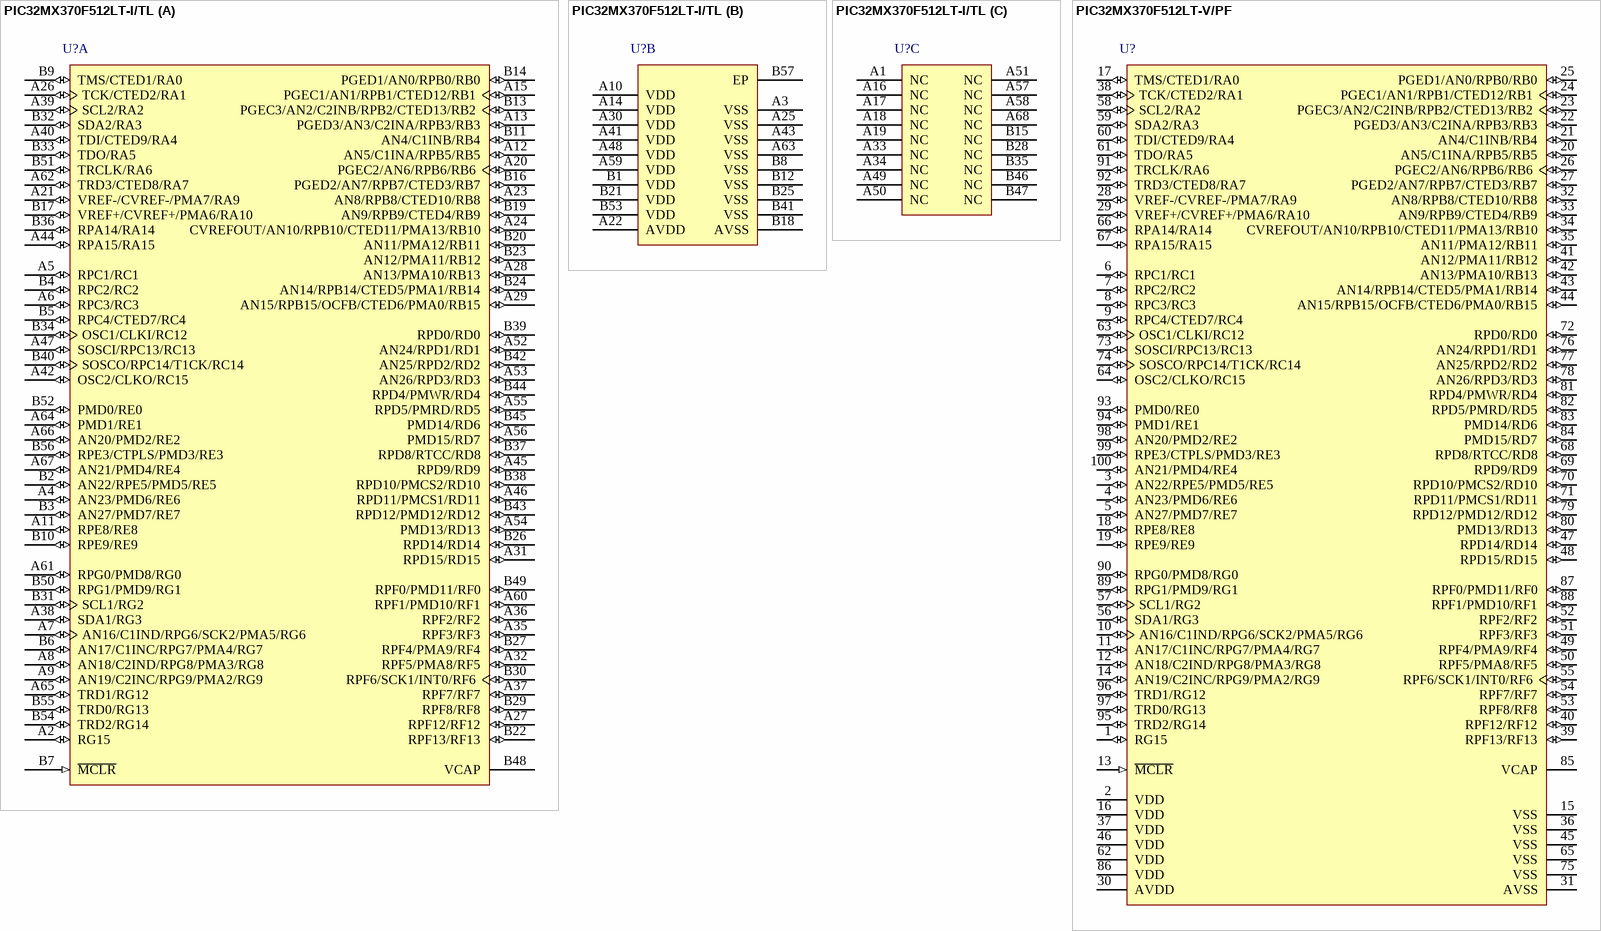
[diagram p56: symbols PIC32MX370F512LT-I/TL to PIC32MX370F512LT-V/PF]

## PIC32MX370F512LT-I/TL
designator U?
32-Bit Microcontrollers with Audio/Graphics/Touch (HMI), USB, and Advanced Analog, 512 KB Program Memory, 128 KB Data Memory, 85 I/O, Industrial Temperature, 124-Pin VTAL (TL124), Tape and Reel; Manufacturer: Microchip; PartNumber: PIC32MX370F512LT-I/TL; VCC Range: 2.3 to 3.6 V; DatasheetVersion: Rev. C; PackageVersion: C04-193A; PackageReference: VTLA-TL124; PackageDescription: 124-Lead Terminal Very Thin Leadless Array Package, 9 x 9 mm Body, 0.5 mm Pitch; Supplier 1: Digi-Key; Supplier Part Number 1: PIC32MX370F512LT-I/TL-ND; Packing: Tape and Reel; Mounting Technology: Surface Mount; ComponentLink1Description: Manufacturer URL; ComponentLink1URL: http://www.microchip.com/; ComponentLink2Description: Datasheet; ComponentLink2URL: http://ww1.microchip.com/downloads/en/DeviceDoc/60001185C.pdf; ComponentLink3Description: Package Specification; ComponentLink3URL: http://ww1.microchip.com/downloads/en/DeviceDoc/60001185C.pdf
footprint MCHP-VTLA-TL124_V (VTLA, 124-Leads, Body 9x9mm, Pitch 0.5mm, Thermal Pad 6.7X6.7mm)
part A pins: A2 RG15 (io) "PORTG is a bidirectional I/O port", A4 AN23/PMD6/RE6 (io), A5 RPC1/RC1 (io), A6 RPC3/RC3 (io), A7 AN16/C1IND/RPG6/SCK2/PMA5/RG6 (io), A8 AN18/C2IND/RPG8/PMA3/RG8 (io), A9 AN19/C2INC/RPG9/PMA2/RG9 (io), A11 RPE8/RE8 (io), A12 AN5/C1INA/RPB5/RB5 (io), A13 PGED3/AN3/C2INA/RPB3/RB3 (io), A15 PGEC1/AN1/RPB1/CTED12/RB1 (io), A20 PGEC2/AN6/RPB6/RB6 (io), A21 VREF-/CVREF-/PMA7/RA9 (io), A23 AN8/RPB8/CTED10/RB8 (io), A24 CVREFOUT/AN10/RPB10/CTED11/PMA13/RB10 (io), A26 TCK/CTED2/RA1 (io), A27 RPF12/RF12 (io), A28 AN13/PMA10/RB13 (io), A29 AN15/RPB15/OCFB/CTED6/PMA0/RB15 (io), A31 RPD15/RD15 (io), A32 RPF5/PMA8/RF5 (io), A35 RPF3/RF3 (io), A36 RPF2/RF2 (io), A37 RPF7/RF7 (io), A38 SDA1/RG3 (io), A39 SCL2/RA2 (io), A40 TDI/CTED9/RA4 (io), A42 OSC2/CLKO/RC15 (io), A44 RPA15/RA15 (io), A45 RPD9/RD9 (io), A46 RPD11/PMCS1/RD11 (io), A47 SOSCI/RPC13/RC13 (io), A52 AN24/RPD1/RD1 (io), A53 AN26/RPD3/RD3 (io), A54 PMD13/RD13 (io), A55 RPD5/PMRD/RD5 (io), A56 PMD15/RD7 (io), A60 RPF1/PMD10/RF1 (io), A61 RPG0/PMD8/RG0 (io), A62 TRD3/CTED8/RA7 (io), A64 PMD1/RE1 (io), A65 TRD1/RG12 (io), A66 AN20/PMD2/RE2 (io), A67 AN21/PMD4/RE4 (io), B2 AN22/RPE5/PMD5/RE5 (io), B3 AN27/PMD7/RE7 (io), B4 RPC2/RC2 (io), B5 RPC4/CTED7/RC4 (io), B6 AN17/C1INC/RPG7/PMA4/RG7 (io), B7 ~{MCLR} (in) "Master Clear (Reset) input. This pin is an active-low Reset to the device.", B9 TMS/CTED1/RA0 (io), B10 RPE9/RE9 (io), B11 AN4/C1INB/RB4 (io), B13 PGEC3/AN2/C2INB/RPB2/CTED13/RB2 (io), B14 PGED1/AN0/RPB0/RB0 (io), B16 PGED2/AN7/RPB7/CTED3/RB7 (io), B17 VREF+/CVREF+/PMA6/RA10 (io), B19 AN9/RPB9/CTED4/RB9 (io), B20 AN11/PMA12/RB11 (io), B22 RPF13/RF13 (io), B23 AN12/PMA11/RB12 (io), B24 AN14/RPB14/CTED5/PMA1/RB14 (io), B26 RPD14/RD14 (io), B27 RPF4/PMA9/RF4 (io), B29 RPF8/RF8 (io), B30 RPF6/SCK1/INT0/RF6 (io), B31 SCL1/RG2 (io), B32 SDA2/RA3 (io), B33 TDO/RA5 (io), B34 OSC1/CLKI/RC12 (io), B36 RPA14/RA14 (io), B37 RPD8/RTCC/RD8 (io), B38 RPD10/PMCS2/RD10 (io), B39 RPD0/RD0 (io), B40 SOSCO/RPC14/T1CK/RC14 (io), B42 AN25/RPD2/RD2 (io), B43 RPD12/PMD12/RD12 (io), B44 RPD4/PMWR/RD4 (io), B45 PMD14/RD6 (io), B48 VCAP "Capacitor for Internal Voltage Regulator", B49 RPF0/PMD11/RF0 (io), B50 RPG1/PMD9/RG1 (io), B51 TRCLK/RA6 (io), B52 PMD0/RE0 (io), B54 TRD2/RG14 (io), B55 TRD0/RG13 (io), B56 RPE3/CTPLS/PMD3/RE3 (io)
part B pins: A3 VSS (power) "Ground reference for logic and I/O pins", A10 VDD (power) "Positive supply for peripheral logic and I/O pins", A14 VDD (power) "Positive supply for peripheral logic and I/O pins", A22 AVDD (power) "Positive supply for analog modules. This pin must be connected at all times.", A25 VSS (power) "Ground reference for logic and I/O pins", A30 VDD (power) "Positive supply for peripheral logic and I/O pins", A41 VDD (power) "Positive supply for peripheral logic and I/O pins", A43 VSS (power) "Ground reference for logic and I/O pins", A48 VDD (power) "Positive supply for peripheral logic and I/O pins", A59 VDD (power) "Positive supply for peripheral logic and I/O pins", A63 VSS (power) "Ground reference for logic and I/O pins", B1 VDD (power) "Positive supply for peripheral logic and I/O pins", B8 VSS (power) "Ground reference for logic and I/O pins", B12 VSS (power) "Ground reference for logic and I/O pins", B18 AVSS (power) "Ground reference for analog modules", B21 VDD (power) "Positive supply for peripheral logic and I/O pins", B25 VSS (power) "Ground reference for logic and I/O pins", B41 VSS (power) "Ground reference for logic and I/O pins", B53 VDD (power) "Positive supply for peripheral logic and I/O pins", B57 EP (power) "Conductive Thermal Pad"
part C pins: A1 NC, A16 NC, A17 NC, A18 NC, A19 NC, A33 NC, A34 NC, A49 NC, A50 NC, A51 NC, A57 NC, A58 NC, A68 NC, B15 NC, B28 NC, B35 NC, B46 NC, B47 NC

## PIC32MX370F512LT-V/PF
designator U?
32-Bit Microcontrollers with Audio/Graphics/Touch (HMI), USB, and Advanced Analog, 512 KB Program Memory, 128 KB Data Memory, 85 I/O, V-Temp, 100-Pin TQFP (PF100), Tape and Reel; Manufacturer: Microchip; PartNumber: PIC32MX370F512LT-V/PF; VCC Range: 2.3 to 3.6 V; DatasheetVersion: Rev. C; PackageVersion: C04-110B, 12/2012; PackageReference: TQFP-PF100; PackageDescription: 100-Lead Thin Plastic Quad Flat Pack, 14 x 14 mm Body, 0.5 mm Pitch; Supplier 1: Digi-Key; Supplier Part Number 1: PIC32MX370F512LT-V/PF-ND; Packing: Tape and Reel; Mounting Technology: Surface Mount; ComponentLink1Description: Manufacturer URL; ComponentLink1URL: http://www.microchip.com/; ComponentLink2Description: Datasheet; ComponentLink2URL: http://ww1.microchip.com/downloads/en/DeviceDoc/60001185C.pdf; ComponentLink3Description: Package Specification; ComponentLink3URL: http://www.microchip.com/stellent/groups/techpub_sg/documents/packagingspec/en012702.pdf
footprint MCHP-TQFP-PF100_N (QFP, 100-Leads, Body 14x14mm, Pitch 0.5mm, IPC Medium Density)
footprint MCHP-TQFP-PF100_L (QFP, 100-Leads, Body 14x14mm, Pitch 0.5mm, IPC High Density)
footprint MCHP-TQFP-PF100_M (QFP, 100-Leads, Body 14x14mm, Pitch 0.5mm, IPC Low Density)
pins: 1 RG15 (io) "PORTG is a bidirectional I/O port", 2 VDD (power) "Positive supply for peripheral logic and I/O pins", 3 AN22/RPE5/PMD5/RE5 (io), 4 AN23/PMD6/RE6 (io), 5 AN27/PMD7/RE7 (io), 6 RPC1/RC1 (io), 7 RPC2/RC2 (io), 8 RPC3/RC3 (io), 9 RPC4/CTED7/RC4 (io), 10 AN16/C1IND/RPG6/SCK2/PMA5/RG6 (io), 11 AN17/C1INC/RPG7/PMA4/RG7 (io), 12 AN18/C2IND/RPG8/PMA3/RG8 (io), 13 ~{MCLR} (in) "Master Clear (Reset) input. This pin is an active-low  Reset to the device.", 14 AN19/C2INC/RPG9/PMA2/RG9 (io), 15 VSS (power) "Ground reference for logic and I/O pins", 16 VDD (power) "Positive supply for peripheral logic and I/O pins", 17 TMS/CTED1/RA0 (io), 18 RPE8/RE8 (io), 19 RPE9/RE9 (io), 20 AN5/C1INA/RPB5/RB5 (io), 21 AN4/C1INB/RB4 (io), 22 PGED3/AN3/C2INA/RPB3/RB3 (io), 23 PGEC3/AN2/C2INB/RPB2/CTED13/RB2 (io), 24 PGEC1/AN1/RPB1/CTED12/RB1 (io), 25 PGED1/AN0/RPB0/RB0 (io), 26 PGEC2/AN6/RPB6/RB6 (io), 27 PGED2/AN7/RPB7/CTED3/RB7 (io), 28 VREF-/CVREF-/PMA7/RA9 (io), 29 VREF+/CVREF+/PMA6/RA10 (io), 30 AVDD (power) "Positive supply for analog modules. This pin must be  connected at all times.", 31 AVSS (power) "Ground reference for analog modules", 32 AN8/RPB8/CTED10/RB8 (io), 33 AN9/RPB9/CTED4/RB9 (io), 34 CVREFOUT/AN10/RPB10/CTED11/PMA13/RB10 (io), 35 AN11/PMA12/RB11 (io), 36 VSS (power) "Ground reference for logic and I/O pins", 37 VDD (power) "Positive supply for peripheral logic and I/O pins", 38 TCK/CTED2/RA1 (io), 39 RPF13/RF13 (io), 40 RPF12/RF12 (io), 41 AN12/PMA11/RB12 (io), 42 AN13/PMA10/RB13 (io), 43 AN14/RPB14/CTED5/PMA1/RB14 (io), 44 AN15/RPB15/OCFB/CTED6/PMA0/RB15 (io), 45 VSS (power) "Ground reference for logic and I/O pins", 46 VDD (power) "Positive supply for peripheral logic and I/O pins", 47 RPD14/RD14 (io), 48 RPD15/RD15 (io), 49 RPF4/PMA9/RF4 (io), 50 RPF5/PMA8/RF5 (io), 51 RPF3/RF3 (io), 52 RPF2/RF2 (io), 53 RPF8/RF8 (io), 54 RPF7/RF7 (io), 55 RPF6/SCK1/INT0/RF6 (io), 56 SDA1/RG3 (io), 57 SCL1/RG2 (io), 58 SCL2/RA2 (io), 59 SDA2/RA3 (io), 60 TDI/CTED9/RA4 (io), 61 TDO/RA5 (io), 62 VDD (power) "Positive supply for peripheral logic and I/O pins", 63 OSC1/CLKI/RC12 (io), 64 OSC2/CLKO/RC15 (io), 65 VSS (power) "Ground reference for logic and I/O pins", 66 RPA14/RA14 (io), 67 RPA15/RA15 (io), 68 RPD8/RTCC/RD8 (io), 69 RPD9/RD9 (io), 70 RPD10/PMCS2/RD10 (io), 71 RPD11/PMCS1/RD11 (io), 72 RPD0/RD0 (io), 73 SOSCI/RPC13/RC13 (io), 74 SOSCO/RPC14/T1CK/RC14 (io), 75 VSS (power) "Ground reference for logic and I/O pins", 76 AN24/RPD1/RD1 (io), 77 AN25/RPD2/RD2 (io), 78 AN26/RPD3/RD3 (io), 79 RPD12/PMD12/RD12 (io), 80 PMD13/RD13 (io), 81 RPD4/PMWR/RD4 (io), 82 RPD5/PMRD/RD5 (io), 83 PMD14/RD6 (io), 84 PMD15/RD7 (io), 85 VCAP "Capacitor for Internal Voltage Regulator", 86 VDD (power) "Positive supply for peripheral logic and I/O pins", 87 RPF0/PMD11/RF0 (io), 88 RPF1/PMD10/RF1 (io), 89 RPG1/PMD9/RG1 (io), 90 RPG0/PMD8/RG0 (io), 91 TRCLK/RA6 (io), 92 TRD3/CTED8/RA7 (io), 93 PMD0/RE0 (io), 94 PMD1/RE1 (io), 95 TRD2/RG14 (io), 96 TRD1/RG12 (io), 97 TRD0/RG13 (io), 98 AN20/PMD2/RE2 (io), 99 RPE3/CTPLS/PMD3/RE3 (io), 100 AN21/PMD4/RE4 (io)

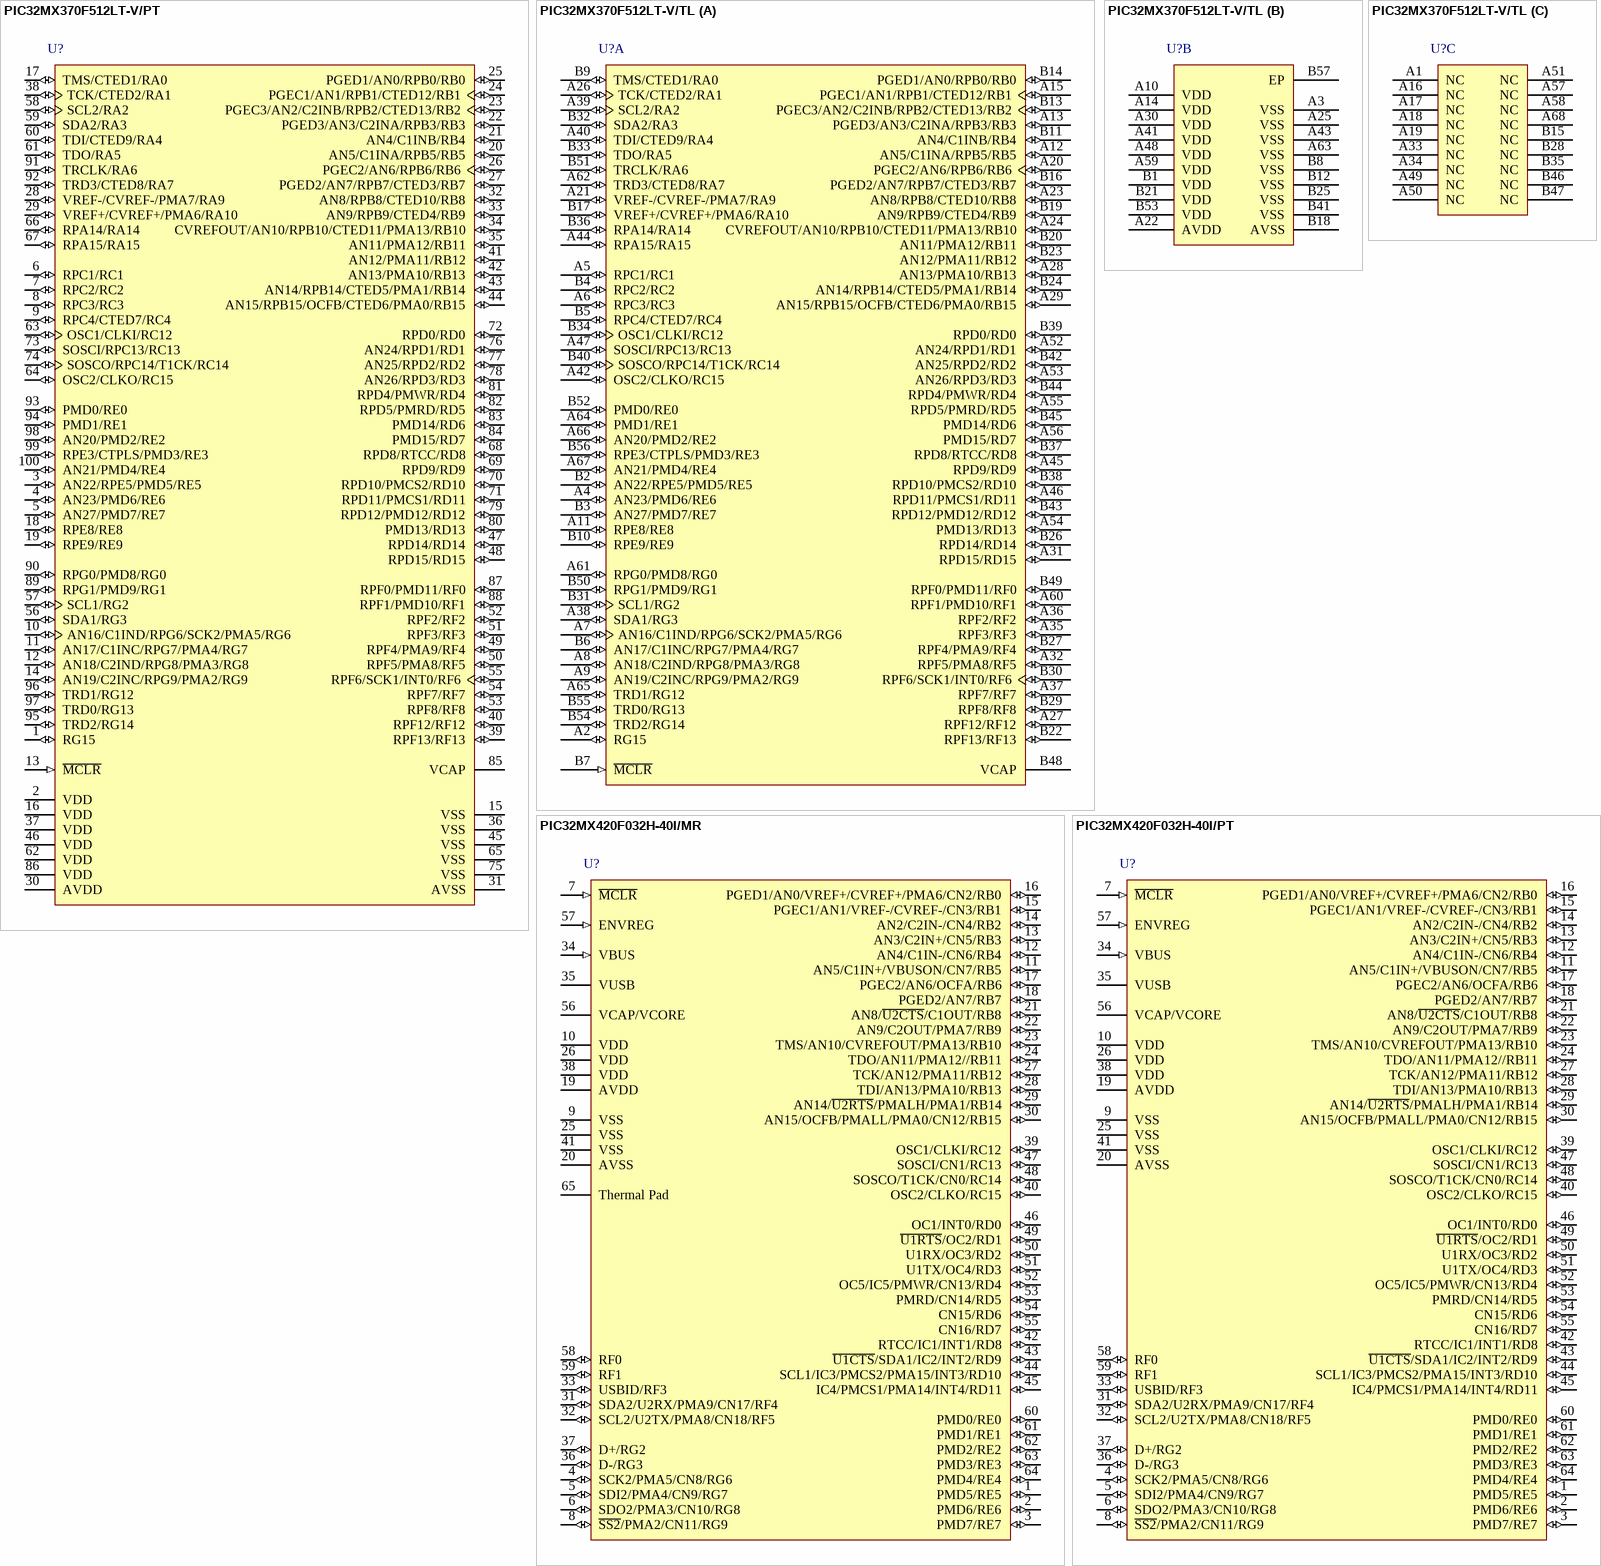
[diagram p57: symbols PIC32MX370F512LT-V/PT to PIC32MX420F032H-40I/PT]

## PIC32MX370F512LT-V/PT
designator U?
32-Bit Microcontrollers with Audio/Graphics/Touch (HMI), USB, and Advanced Analog, 512 KB Program Memory, 128 KB Data Memory, 85 I/O, V-Temp, 100-Pin TQFP (PT100), Tape and Reel; Manufacturer: Microchip; PartNumber: PIC32MX370F512LT-V/PT; VCC Range: 2.3 to 3.6 V; DatasheetVersion: Rev. C; PackageVersion: C04-100B, 12/2012; PackageReference: TQFP-PT100; PackageDescription: 100-Lead Plastic Thin Quad Flatpack, 12 x 12 mm Body, 0.4 mm Pitch; Supplier 1: Digi-Key; Supplier Part Number 1: PIC32MX370F512LT-V/PT-ND; Packing: Tape and Reel; Mounting Technology: Surface Mount; ComponentLink1Description: Manufacturer URL; ComponentLink1URL: http://www.microchip.com/; ComponentLink2Description: Datasheet; ComponentLink2URL: http://ww1.microchip.com/downloads/en/DeviceDoc/60001185C.pdf; ComponentLink3Description: Package Specification; ComponentLink3URL: http://www.microchip.com/stellent/groups/techpub_sg/documents/packagingspec/en012702.pdf
footprint MCHP-TQFP-PT100_N (QFP, 100-Leads, Body 12x12mm, Pitch 0.4mm, IPC Medium Density)
footprint MCHP-TQFP-PT100_L (QFP, 100-Leads, Body 12x12mm, Pitch 0.4mm, IPC High Density)
footprint MCHP-TQFP-PT100_M (TQFP, 100-Leads, Body 12x12mm, Pitch 0.4mm, IPC Low Density)
pins: 1 RG15 (io) "PORTG is a bidirectional I/O port", 2 VDD (power) "Positive supply for peripheral logic and I/O pins", 3 AN22/RPE5/PMD5/RE5 (io), 4 AN23/PMD6/RE6 (io), 5 AN27/PMD7/RE7 (io), 6 RPC1/RC1 (io), 7 RPC2/RC2 (io), 8 RPC3/RC3 (io), 9 RPC4/CTED7/RC4 (io), 10 AN16/C1IND/RPG6/SCK2/PMA5/RG6 (io), 11 AN17/C1INC/RPG7/PMA4/RG7 (io), 12 AN18/C2IND/RPG8/PMA3/RG8 (io), 13 ~{MCLR} (in) "Master Clear (Reset) input. This pin is an active-low  Reset to the device.", 14 AN19/C2INC/RPG9/PMA2/RG9 (io), 15 VSS (power) "Ground reference for logic and I/O pins", 16 VDD (power) "Positive supply for peripheral logic and I/O pins", 17 TMS/CTED1/RA0 (io), 18 RPE8/RE8 (io), 19 RPE9/RE9 (io), 20 AN5/C1INA/RPB5/RB5 (io), 21 AN4/C1INB/RB4 (io), 22 PGED3/AN3/C2INA/RPB3/RB3 (io), 23 PGEC3/AN2/C2INB/RPB2/CTED13/RB2 (io), 24 PGEC1/AN1/RPB1/CTED12/RB1 (io), 25 PGED1/AN0/RPB0/RB0 (io), 26 PGEC2/AN6/RPB6/RB6 (io), 27 PGED2/AN7/RPB7/CTED3/RB7 (io), 28 VREF-/CVREF-/PMA7/RA9 (io), 29 VREF+/CVREF+/PMA6/RA10 (io), 30 AVDD (power) "Positive supply for analog modules. This pin must be  connected at all times.", 31 AVSS (power) "Ground reference for analog modules", 32 AN8/RPB8/CTED10/RB8 (io), 33 AN9/RPB9/CTED4/RB9 (io), 34 CVREFOUT/AN10/RPB10/CTED11/PMA13/RB10 (io), 35 AN11/PMA12/RB11 (io), 36 VSS (power) "Ground reference for logic and I/O pins", 37 VDD (power) "Positive supply for peripheral logic and I/O pins", 38 TCK/CTED2/RA1 (io), 39 RPF13/RF13 (io), 40 RPF12/RF12 (io), 41 AN12/PMA11/RB12 (io), 42 AN13/PMA10/RB13 (io), 43 AN14/RPB14/CTED5/PMA1/RB14 (io), 44 AN15/RPB15/OCFB/CTED6/PMA0/RB15 (io), 45 VSS (power) "Ground reference for logic and I/O pins", 46 VDD (power) "Positive supply for peripheral logic and I/O pins", 47 RPD14/RD14 (io), 48 RPD15/RD15 (io), 49 RPF4/PMA9/RF4 (io), 50 RPF5/PMA8/RF5 (io), 51 RPF3/RF3 (io), 52 RPF2/RF2 (io), 53 RPF8/RF8 (io), 54 RPF7/RF7 (io), 55 RPF6/SCK1/INT0/RF6 (io), 56 SDA1/RG3 (io), 57 SCL1/RG2 (io), 58 SCL2/RA2 (io), 59 SDA2/RA3 (io), 60 TDI/CTED9/RA4 (io), 61 TDO/RA5 (io), 62 VDD (power) "Positive supply for peripheral logic and I/O pins", 63 OSC1/CLKI/RC12 (io), 64 OSC2/CLKO/RC15 (io), 65 VSS (power) "Ground reference for logic and I/O pins", 66 RPA14/RA14 (io), 67 RPA15/RA15 (io), 68 RPD8/RTCC/RD8 (io), 69 RPD9/RD9 (io), 70 RPD10/PMCS2/RD10 (io), 71 RPD11/PMCS1/RD11 (io), 72 RPD0/RD0 (io), 73 SOSCI/RPC13/RC13 (io), 74 SOSCO/RPC14/T1CK/RC14 (io), 75 VSS (power) "Ground reference for logic and I/O pins", 76 AN24/RPD1/RD1 (io), 77 AN25/RPD2/RD2 (io), 78 AN26/RPD3/RD3 (io), 79 RPD12/PMD12/RD12 (io), 80 PMD13/RD13 (io), 81 RPD4/PMWR/RD4 (io), 82 RPD5/PMRD/RD5 (io), 83 PMD14/RD6 (io), 84 PMD15/RD7 (io), 85 VCAP "Capacitor for Internal Voltage Regulator", 86 VDD (power) "Positive supply for peripheral logic and I/O pins", 87 RPF0/PMD11/RF0 (io), 88 RPF1/PMD10/RF1 (io), 89 RPG1/PMD9/RG1 (io), 90 RPG0/PMD8/RG0 (io), 91 TRCLK/RA6 (io), 92 TRD3/CTED8/RA7 (io), 93 PMD0/RE0 (io), 94 PMD1/RE1 (io), 95 TRD2/RG14 (io), 96 TRD1/RG12 (io), 97 TRD0/RG13 (io), 98 AN20/PMD2/RE2 (io), 99 RPE3/CTPLS/PMD3/RE3 (io), 100 AN21/PMD4/RE4 (io)

## PIC32MX370F512LT-V/TL
designator U?
32-Bit Microcontrollers with Audio/Graphics/Touch (HMI), USB, and Advanced Analog, 512 KB Program Memory, 128 KB Data Memory, 85 I/O, V-Temp, 124-Pin VTAL (TL124), Tape and Reel; Manufacturer: Microchip; PartNumber: PIC32MX370F512LT-V/TL; VCC Range: 2.3 to 3.6 V; DatasheetVersion: Rev. C; PackageVersion: C04-193A; PackageReference: VTLA-TL124; PackageDescription: 124-Lead Terminal Very Thin Leadless Array Package, 9 x 9 mm Body, 0.5 mm Pitch; Supplier 1: Digi-Key; Supplier Part Number 1: PIC32MX370F512LT-V/TL-ND; Packing: Tape and Reel; Mounting Technology: Surface Mount; ComponentLink1Description: Manufacturer URL; ComponentLink1URL: http://www.microchip.com/; ComponentLink2Description: Datasheet; ComponentLink2URL: http://ww1.microchip.com/downloads/en/DeviceDoc/60001185C.pdf; ComponentLink3Description: Package Specification; ComponentLink3URL: http://ww1.microchip.com/downloads/en/DeviceDoc/60001185C.pdf
footprint MCHP-VTLA-TL124_V (VTLA, 124-Leads, Body 9x9mm, Pitch 0.5mm, Thermal Pad 6.7X6.7mm)
part A pins: A2 RG15 (io) "PORTG is a bidirectional I/O port", A4 AN23/PMD6/RE6 (io), A5 RPC1/RC1 (io), A6 RPC3/RC3 (io), A7 AN16/C1IND/RPG6/SCK2/PMA5/RG6 (io), A8 AN18/C2IND/RPG8/PMA3/RG8 (io), A9 AN19/C2INC/RPG9/PMA2/RG9 (io), A11 RPE8/RE8 (io), A12 AN5/C1INA/RPB5/RB5 (io), A13 PGED3/AN3/C2INA/RPB3/RB3 (io), A15 PGEC1/AN1/RPB1/CTED12/RB1 (io), A20 PGEC2/AN6/RPB6/RB6 (io), A21 VREF-/CVREF-/PMA7/RA9 (io), A23 AN8/RPB8/CTED10/RB8 (io), A24 CVREFOUT/AN10/RPB10/CTED11/PMA13/RB10 (io), A26 TCK/CTED2/RA1 (io), A27 RPF12/RF12 (io), A28 AN13/PMA10/RB13 (io), A29 AN15/RPB15/OCFB/CTED6/PMA0/RB15 (io), A31 RPD15/RD15 (io), A32 RPF5/PMA8/RF5 (io), A35 RPF3/RF3 (io), A36 RPF2/RF2 (io), A37 RPF7/RF7 (io), A38 SDA1/RG3 (io), A39 SCL2/RA2 (io), A40 TDI/CTED9/RA4 (io), A42 OSC2/CLKO/RC15 (io), A44 RPA15/RA15 (io), A45 RPD9/RD9 (io), A46 RPD11/PMCS1/RD11 (io), A47 SOSCI/RPC13/RC13 (io), A52 AN24/RPD1/RD1 (io), A53 AN26/RPD3/RD3 (io), A54 PMD13/RD13 (io), A55 RPD5/PMRD/RD5 (io), A56 PMD15/RD7 (io), A60 RPF1/PMD10/RF1 (io), A61 RPG0/PMD8/RG0 (io), A62 TRD3/CTED8/RA7 (io), A64 PMD1/RE1 (io), A65 TRD1/RG12 (io), A66 AN20/PMD2/RE2 (io), A67 AN21/PMD4/RE4 (io), B2 AN22/RPE5/PMD5/RE5 (io), B3 AN27/PMD7/RE7 (io), B4 RPC2/RC2 (io), B5 RPC4/CTED7/RC4 (io), B6 AN17/C1INC/RPG7/PMA4/RG7 (io), B7 ~{MCLR} (in) "Master Clear (Reset) input. This pin is an active-low Reset to the device.", B9 TMS/CTED1/RA0 (io), B10 RPE9/RE9 (io), B11 AN4/C1INB/RB4 (io), B13 PGEC3/AN2/C2INB/RPB2/CTED13/RB2 (io), B14 PGED1/AN0/RPB0/RB0 (io), B16 PGED2/AN7/RPB7/CTED3/RB7 (io), B17 VREF+/CVREF+/PMA6/RA10 (io), B19 AN9/RPB9/CTED4/RB9 (io), B20 AN11/PMA12/RB11 (io), B22 RPF13/RF13 (io), B23 AN12/PMA11/RB12 (io), B24 AN14/RPB14/CTED5/PMA1/RB14 (io), B26 RPD14/RD14 (io), B27 RPF4/PMA9/RF4 (io), B29 RPF8/RF8 (io), B30 RPF6/SCK1/INT0/RF6 (io), B31 SCL1/RG2 (io), B32 SDA2/RA3 (io), B33 TDO/RA5 (io), B34 OSC1/CLKI/RC12 (io), B36 RPA14/RA14 (io), B37 RPD8/RTCC/RD8 (io), B38 RPD10/PMCS2/RD10 (io), B39 RPD0/RD0 (io), B40 SOSCO/RPC14/T1CK/RC14 (io), B42 AN25/RPD2/RD2 (io), B43 RPD12/PMD12/RD12 (io), B44 RPD4/PMWR/RD4 (io), B45 PMD14/RD6 (io), B48 VCAP "Capacitor for Internal Voltage Regulator", B49 RPF0/PMD11/RF0 (io), B50 RPG1/PMD9/RG1 (io), B51 TRCLK/RA6 (io), B52 PMD0/RE0 (io), B54 TRD2/RG14 (io), B55 TRD0/RG13 (io), B56 RPE3/CTPLS/PMD3/RE3 (io)
part B pins: A3 VSS (power) "Ground reference for logic and I/O pins", A10 VDD (power) "Positive supply for peripheral logic and I/O pins", A14 VDD (power) "Positive supply for peripheral logic and I/O pins", A22 AVDD (power) "Positive supply for analog modules. This pin must be connected at all times.", A25 VSS (power) "Ground reference for logic and I/O pins", A30 VDD (power) "Positive supply for peripheral logic and I/O pins", A41 VDD (power) "Positive supply for peripheral logic and I/O pins", A43 VSS (power) "Ground reference for logic and I/O pins", A48 VDD (power) "Positive supply for peripheral logic and I/O pins", A59 VDD (power) "Positive supply for peripheral logic and I/O pins", A63 VSS (power) "Ground reference for logic and I/O pins", B1 VDD (power) "Positive supply for peripheral logic and I/O pins", B8 VSS (power) "Ground reference for logic and I/O pins", B12 VSS (power) "Ground reference for logic and I/O pins", B18 AVSS (power) "Ground reference for analog modules", B21 VDD (power) "Positive supply for peripheral logic and I/O pins", B25 VSS (power) "Ground reference for logic and I/O pins", B41 VSS (power) "Ground reference for logic and I/O pins", B53 VDD (power) "Positive supply for peripheral logic and I/O pins", B57 EP (power) "Conductive Thermal Pad"
part C pins: A1 NC, A16 NC, A17 NC, A18 NC, A19 NC, A33 NC, A34 NC, A49 NC, A50 NC, A51 NC, A57 NC, A58 NC, A68 NC, B15 NC, B28 NC, B35 NC, B46 NC, B47 NC

## PIC32MX420F032H-40I/MR
designator U?
High Performance 40 MHz MIPS-Based 32-Bit Flash Microcontroller with USB, 32KB Program Memory, 64-pin QFN, Industrial Temperature; Manufacturer: Microchip; PartNumber: PIC32MX420F032H-40I/MR; DatasheetVersion: revH, May-2011; PackageVersion: revBB, Aug-2009; PackageReference: QFN-MR64; PackageDescription: 64-Lead Plastic Quad Flat, No Lead Package (MR) - 9x9x0.9 mm Body [QFN]; Supplier 1: Digi-Key; Supplier Part Number 1: PIC32MX420F032H-40I/MR-ND; Mounting Technology: Surface Mount; ComponentLink1Description: Manufacturer URL; ComponentLink1URL: http://www.microchip.com/; ComponentLink2Description: Datasheet; ComponentLink2URL: http://ww1.microchip.com/downloads/en/DeviceDoc/61143H.pdf; ComponentLink3Description: Package Specification; ComponentLink3URL: http://ww1.microchip.com/downloads/en/PackagingSpec/en012702.pdf
footprint QFN-MR64_N (QFN, 64-Leads, Body 9x9mm, Pitch 0.5mm, Thermal Pad 7.5x7.5mm, IPC Medium Density)
footprint QFN-MR64_L (QFN, 64-Leads, Body 9x9mm, Pitch 0.5mm, Thermal Pad 7.5x7.5mm, IPC High Density)
footprint QFN-MR64_M (QFN, 64-Leads, Body 9x9mm, Pitch 0.5mm, Thermal Pad 7.5x7.5mm, IPC Low Density)
pins: 1 PMD5/RE5 (io), 2 PMD6/RE6 (io), 3 PMD7/RE7 (io), 4 SCK2/PMA5/CN8/RG6 (io), 5 SDI2/PMA4/CN9/RG7 (io), 6 SDO2/PMA3/CN10/RG8 (io), 7 ~{MCLR} (in), 8 ~{SS2}/PMA2/CN11/RG9 (io), 9 VSS (power), 10 VDD (power), 11 AN5/C1IN+/VBUSON/CN7/RB5 (io), 12 AN4/C1IN-/CN6/RB4 (io), 13 AN3/C2IN+/CN5/RB3 (io), 14 AN2/C2IN-/CN4/RB2 (io), 15 PGEC1/AN1/VREF-/CVREF-/CN3/RB1 (io), 16 PGED1/AN0/VREF+/CVREF+/PMA6/CN2/RB0 (io), 17 PGEC2/AN6/OCFA/RB6 (io), 18 PGED2/AN7/RB7 (io), 19 AVDD (power), 20 AVSS (power), 21 AN8/~{U2CTS}/C1OUT/RB8 (io), 22 AN9/C2OUT/PMA7/RB9 (io), 23 TMS/AN10/CVREFOUT/PMA13/RB10 (io), 24 TDO/AN11/PMA12//RB11 (io), 25 VSS (power), 26 VDD (power), 27 TCK/AN12/PMA11/RB12 (io), 28 TDI/AN13/PMA10/RB13 (io), 29 AN14/~{U2RTS}/PMALH/PMA1/RB14 (io), 30 AN15/OCFB/PMALL/PMA0/CN12/RB15 (io), 31 SDA2/U2RX/PMA9/CN17/RF4 (io), 32 SCL2/U2TX/PMA8/CN18/RF5 (io), 33 USBID/RF3 (io), 34 VBUS (in), 35 VUSB (power), 36 D-/RG3 (io), 37 D+/RG2 (io), 38 VDD (power), 39 OSC1/CLKI/RC12 (io), 40 OSC2/CLKO/RC15 (io), 41 VSS (power), 42 RTCC/IC1/INT1/RD8 (io), 43 ~{U1CTS}/SDA1/IC2/INT2/RD9 (io), 44 SCL1/IC3/PMCS2/PMA15/INT3/RD10 (io), 45 IC4/PMCS1/PMA14/INT4/RD11 (io), 46 OC1/INT0/RD0 (io), 47 SOSCI/CN1/RC13 (io), 48 SOSCO/T1CK/CN0/RC14 (io), 49 ~{U1RTS}/OC2/RD1 (io), 50 U1RX/OC3/RD2 (io), 51 U1TX/OC4/RD3 (io), 52 OC5/IC5/PMWR/CN13/RD4 (io), 53 PMRD/CN14/RD5 (io), 54 CN15/RD6 (io), 55 CN16/RD7 (io), 56 VCAP/VCORE (power), 57 ENVREG (in), 58 RF0 (io), 59 RF1 (io), 60 PMD0/RE0 (io), 61 PMD1/RE1 (io), 62 PMD2/RE2 (io), 63 PMD3/RE3 (io), 64 PMD4/RE4 (io), 65 Thermal Pad